# Altium schematic symbol library SCH - DRIVER - LED - TI UCC25710_DW_20.SchLib: 1 symbol
Pins are listed as number, name and electrical type; pins without a type are passive.

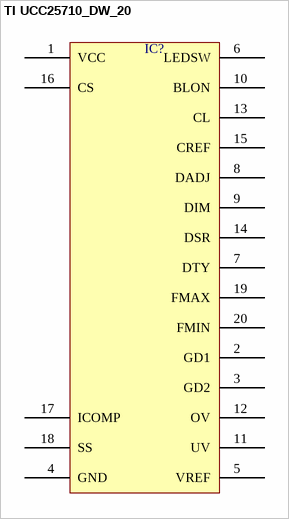
[diagram p0: symbol TI UCC25710_DW_20]

## TI UCC25710_DW_20
designator IC?  (value not drawn)
pins: 1 VCC, 2 GD1, 3 GD2, 4 GND, 5 VREF, 6 LEDSW, 7 DTY, 8 DADJ, 9 DIM, 10 BLON, 11 UV, 12 OV, 13 CL, 14 DSR, 15 CREF, 16 CS, 17 ICOMP, 18 SS, 19 FMAX, 20 FMIN